# Altium footprint library 4960.PcbLib: 1 footprints
Each footprint in its own frame and in the unit in brackets; x right, y up, seen from the top. Pads: shape width x height; smd on the part's side, far side on the other; paste and mask are expansions set on the pad; w line width, h text height; cw(c..) or ccw(c..) is an arc to the next point about the centre after c.
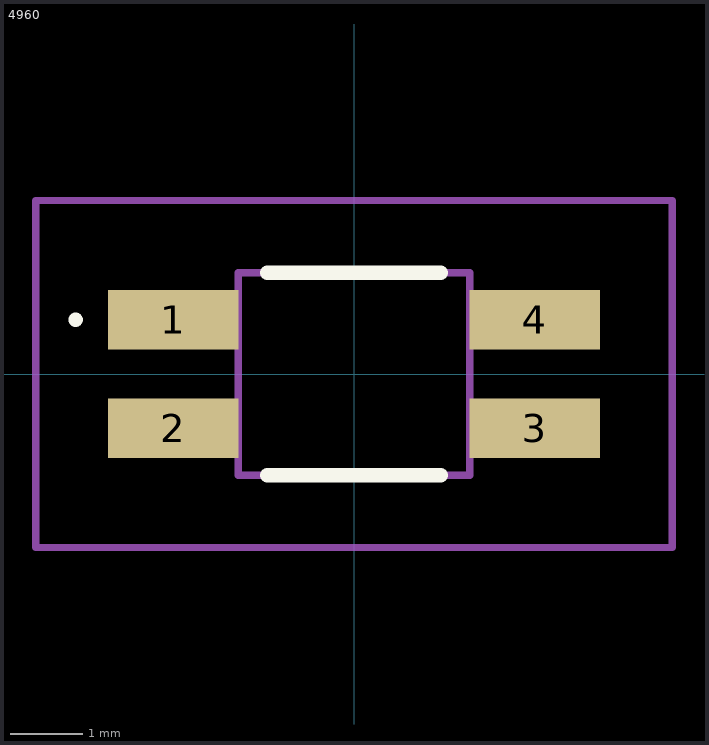
[diagram p0: the footprint, top view; thin cyan lines are the x and y axes]

## 4960 [mm]
pads (4):
  rect 1.8x0.82 smd: 1(-2.5,0.75) 2(-2.5,-0.75) 3(2.5,-0.75) 4(2.5,0.75)
Top Overlay:
  lines w0.1: -3.9,0.75 cw(c-3.85,0.75) -3.8,0.75 ; -3.9,0.75 -3.9,0.75 ; -3.9,0.75 ccw(c-3.85,0.75) -3.8,0.75 ; -3.8,0.75 -3.8,0.75
  lines w0.2: -1.2,-1.4 1.2,-1.4 ; -1.2,1.4 1.2,1.4
Mechanical 15:
  lines w0.1: -1.6,-1.4 1.6,-1.4 1.6,1.4 -1.6,1.4 -1.6,-1.4
Drill Drawing:
  lines w0.1: -1.6,-1.4 1.6,-1.4 1.6,1.4 -1.6,1.4 -1.6,-1.4
Mechanical 20:
  lines w0.1: -4.4,-2.4 4.4,-2.4 4.4,2.4 -4.4,2.4 -4.4,-2.4